# Altium footprint library uclamp3301P.PcbLib: 1 footprints
Each footprint in its own frame and in the unit in brackets; x right, y up, seen from the top. Pads: shape width x height; smd on the part's side, far side on the other; paste and mask are expansions set on the pad; w line width, h text height; cw(c..) or ccw(c..) is an arc to the next point about the centre after c.
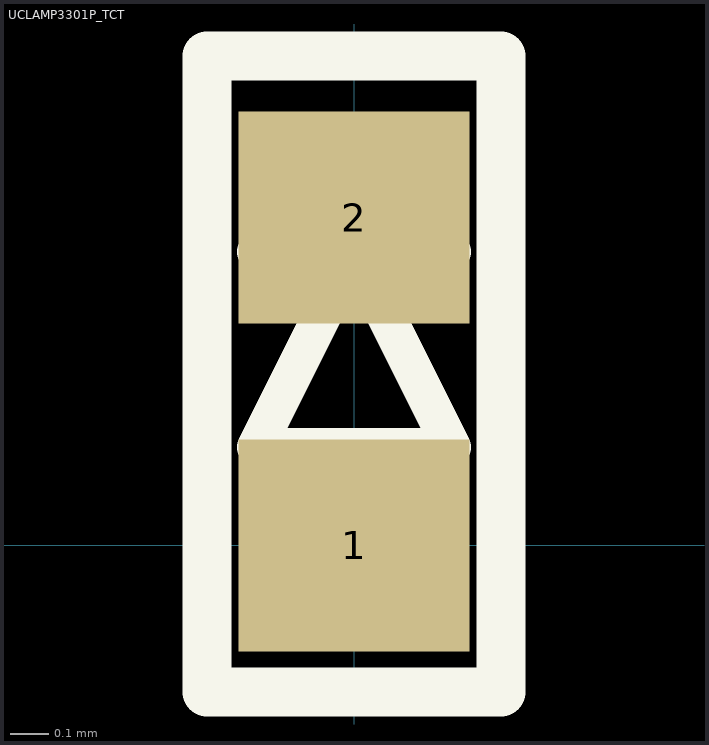
[diagram p0: the footprint, top view; thin cyan lines are the x and y axes]

## UCLAMP3301P_TCT [mm] "TVS ESD and CDE protection"
height 0.55
pads (2):
  rect 0.6x0.55 smd: 1(0,0) 2(0,0.85)
Top Overlay:
  lines w0.1: -0.254,0.762 0.254,0.762 ; 0,0 0,0.254 ; -0.254,0.254 0,0.762 0.254,0.254 -0.254,0.254
  lines w0.127: -0.381,-0.381 0.381,-0.381 0.381,1.27 -0.381,1.27 -0.381,-0.381
3D body: height 0.55, standoff 0, extent -0.402,-0.377 0.402,1.227